# Altium footprint library Diodes.PcbLib: 28 footprints (part 2 of 2)
Each footprint in its own frame and in the unit in brackets; x right, y up, seen from the top. Pads: shape width x height; smd on the part's side, far side on the other; paste and mask are expansions set on the pad; w line width, h text height; cw(c..) or ccw(c..) is an arc to the next point about the centre after c.
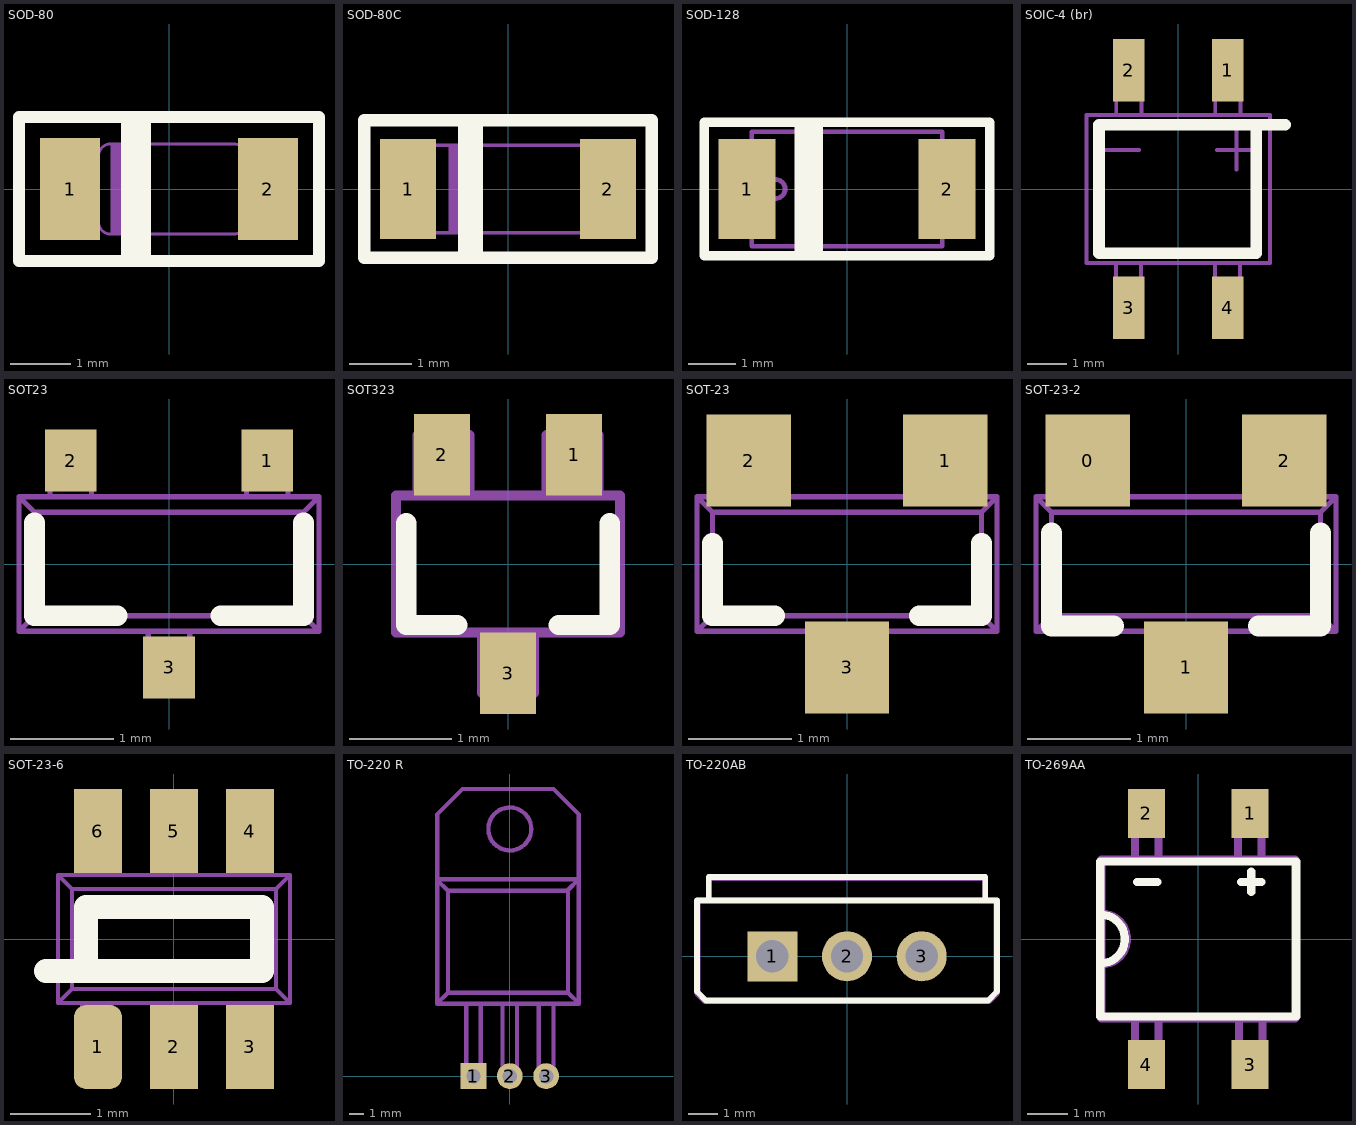
[diagram p1: the footprints below, top view; thin cyan lines are the x and y axes]

## SOD-80 [mm]
pads (2):
  rect 1x1.7 smd: 1(-1.65,0) 2(1.65,0)
Top Overlay:
  rectangle: -0.8,-1.2 -0.3,1.2
  lines w0.2: -2.5,-1.2 -2.5,1.2 2.5,1.2 2.5,-1.2 -2.5,-1.2
Mechanical 1:
  rectangle: -0.975,-0.75 -0.6,0.75
  lines w0.05: -1.275,-0.25 -1.175,-0.25 ; -1.275,0.25 -1.175,0.25 ; 1.275,-0.55 cw(c1.075,-0.55) 1.075,-0.75 -0.975,-0.75 cw(c-0.975,-0.55) -1.175,-0.55 -1.175,0.55 cw(c-0.975,0.55) -0.975,0.75 1.075,0.75 cw(c1.075,0.55) 1.275,0.55 ; -1.75,-0.75 -1.75,0.75 -1.275,0.75 -1.275,-0.75 -1.75,-0.75 ; 1.275,-0.75 1.75,-0.75 1.75,0.75 1.275,0.75 1.275,-0.75
  text ".Designator" at -1.45,1.175 h0.8
  text ".Comment" at -0.325,-0.15 h0.4
3D body "SOD-80.step": height 1.6, standoff 0, extent -1.852,-0.806 1.848,0.794

## SOD-80C [mm]
pads (2):
  rect 0.9x1.6 smd mask+0.076: 1(-1.6,0) 2(1.6,0)
Top Overlay:
  rectangle: -0.8,-1.1 -0.4,1.1
  lines w0.2: -2.3,-1.1 2.3,-1.1 2.3,1.1 -2.3,1.1 -2.3,-1.1
Mechanical 1:
  rectangle: -0.95,-0.7 -0.675,0.7
  lines w0.05: -1.451,-0.762 -1.75,-0.762 -1.75,0.763 -1.45,0.763 -1.45,-0.763 ; -1.45,-0.6 ccw(c-1.35,-0.6) -1.35,-0.7 1.35,-0.7 ccw(c1.35,-0.6) 1.45,-0.6 ; -1.45,0.6 cw(c-1.35,0.6) -1.35,0.7 1.35,0.7 cw(c1.35,0.6) 1.45,0.6 ; 1.75,-0.761 1.451,-0.761 1.451,0.764 1.751,0.764 1.751,-0.762
  text ".Comment" at -0.4,-0.2 h0.6
  text ".Designator" at -1,1 h0.8
3D body "SOD-80C.step": height 1.6, standoff 0, extent -1.85,-0.8 1.85,0.8

## SOD-128 [mm]
pads (2):
  rect 1.2x2.1 smd: 1(-2.1,0) 2(2.1,0)
Top Overlay:
  rectangle: -1.1,-1.4 -0.5,1.4
  lines w0.2: -3,-1.4 -3,1.4 3,1.4 3,-1.4 -3,-1.4
Mechanical 1:
  circle w0.1: c-1.5,0 r0.2
  lines w0.1: -2,-0.8 -2.4,-0.8 -2.4,0.8 -2,0.8 ; 2,-0.8 2.4,-0.8 2.4,0.8 2,0.8 ; -2,-1.2 2,-1.2 2,1.2 -2,1.2 -2,-1.2
  text "'.Designator'" at -1.8,1.4 h1
  text "'.Comment'" at -1.8,-1 h1
3D body "TMiniP2-F2-B-M.step": height 0.89, standoff 0, extent -2.4,-1.245 2.4,1.245

## SOIC-4 (br) [mm]
pads (4):
  rect 0.8x1.6 smd: 1(1.27,3.048) 2(-1.27,3.048) 3(-1.27,-3.048) 4(1.27,-3.048)
Top Overlay:
  lines w0.3: 2.35,1.651 -2.032,1.651 -2.032,-1.651 2,-1.651 2,1.651 2.75,1.651
Mechanical 1:
  lines w0.1: -2,1 -1,1 ; -1.595,-1.9 -1.595,-3.302 -0.95,-3.302 -0.95,-1.9 ; -1.59,1.9 -1.59,3.302 -0.945,3.302 -0.945,1.9 ; -1.5,-2.625 -1.05,-2.625 ; -1.49,2.625 -1.04,2.625 ; 0.945,-1.9 0.945,-3.302 1.59,-3.302 1.59,-1.9 ; 0.95,1.9 0.95,3.302 1.595,3.302 1.595,1.9 ; 1,1 2,1 ; 1.04,-2.625 1.49,-2.625 ; 1.05,2.625 1.5,2.625 ; 1.5,0.5 1.5,1.5 ; -2.35,-1.9 2.35,-1.9 2.35,1.9 -2.35,1.9 -2.35,-1.9
  text ".Designator" at 1.95,2.1 h1
  text ".Comment" at -2.075,-1.4 h1
3D body "SOP-4 (bridge).STEP": height 2.9, standoff 0, extent -2.475,-3.339 2.475,3.341

## SOT23 [mm]
pads (3):
  rect 0.5x0.6 smd: 1(0.95,1) 2(-0.95,1) 3(0,-1)
Top Overlay:
  lines w0.2: -1.3,0.4 -1.3,-0.5 -0.5,-0.5 ; 0.5,-0.5 1.3,-0.5 1.3,0.4
Mechanical 1:
  lines w0.05: -1.15,0.65 -1.15,1.2 -0.75,1.2 -0.75,0.65 ; -0.2,-0.65 -0.2,-1.2 0.2,-1.2 0.2,-0.65 ; 0.75,0.65 0.75,1.2 1.15,1.2 1.15,0.65 ; -1.45,-0.65 -1.3,-0.5 ; -1.45,-0.65 1.45,-0.65 ; -1.45,-0.65 -1.45,0.65 ; -1.45,0.65 -1.3,0.5 ; -1.45,0.65 1.45,0.65 ; -1.3,-0.5 -1.3,0.5 ; -1.3,-0.5 1.3,-0.5 ; -1.3,0.5 1.3,0.5 ; 1.3,-0.5 1.3,0.5 ; 1.3,-0.5 1.45,-0.65 ; 1.3,0.5 1.45,0.65 ; 1.45,-0.65 1.45,0.65
  text ".Designator" at -0.5,0.8 h0.51
  text ".Comment" at -1.2,-0.1 h0.51
3D body "SOT-23.step": height 1.06, standoff -0.04, extent -1.5,-1.25 1.5,1.25

## SOT323 [mm]
height 0.95
pads (3):
  rect 0.55x0.8 smd: 1(0.65,1.075) 2(-0.65,1.075) 3(0,-1.075)
Top Overlay:
  lines w0.2: -1,0.4 -1,-0.6 -0.5,-0.6 ; 0.5,-0.6 1,-0.6 1,0.4
Mechanical 1:
  lines w0.1: -0.889,0.675 -0.889,1.27 -0.381,1.27 -0.381,0.675 ; -0.254,-0.675 -0.254,-1.27 0.254,-1.27 0.254,-0.675 ; 0.381,0.675 0.381,1.27 0.889,1.27 0.889,0.675 ; -1.1,-0.675 1.1,-0.675 1.1,0.675 -1.1,0.675 -1.1,-0.675
  text "'.Comment'" at -1,-0.2 h0.5
  text "'.Designator'" at 1.2,0.9 h0.5
3D body "User Library-SOT323 (SC70-3)-1.STEP": height 1.1, standoff 0, extent -1.1,-1.123 1.1,1.122

## SOT-23 [mil]
pads (3):
  rect 32x35 smd: 1(37.4,39.37) 2(-37.4,39.37) 3(0,-39.37)
Top Overlay:
  lines w7.87: -51.18,7.87 -51.18,-19.68 -27.56,-19.68 ; 27.56,-19.68 51.18,-19.68 51.18,7.87
Mechanical 1:
  lines w1.97: -45.28,25.59 -45.28,47.24 -29.53,47.24 -29.53,25.59 ; -7.87,-25.59 -7.87,-47.24 7.87,-47.24 7.87,-25.59 ; 29.53,25.59 29.53,47.24 45.28,47.24 45.28,25.59 ; -57.09,-25.59 -57.09,25.59 ; -57.09,-25.59 57.09,-25.59 ; -57.09,-25.59 -51.18,-19.68 ; -57.09,25.59 57.09,25.59 ; -57.09,25.59 -51.18,19.68 ; -51.18,-19.68 51.18,-19.68 ; -51.18,-19.68 -51.18,19.68 ; -51.18,19.68 51.18,19.68 ; 51.18,-19.68 57.09,-25.59 ; 51.18,-19.68 51.18,19.68 ; 51.18,19.68 57.09,25.59 ; 57.09,-25.59 57.09,25.59
  text ".Designator" at -15.75,29.53 h19.68
  text ".Comment" at -46.26,-16.73 h19.68
3D body "SOT-23.step": height 41.34, standoff -1.97, extent -59.05,-49.21 59.06,49.22

## SOT-23-2 [mil]
pads (3):
  rect 32x35 smd: 0(-37.4,39.37) 1(0,-39.37) 2(37.4,39.37)
Top Overlay:
  lines w7.87: -51.18,11.81 -51.18,-23.62 -27.56,-23.62 ; 27.56,-23.62 51.18,-23.62 51.18,11.81
Mechanical 1:
  lines w1.97: -45.28,25.59 -45.28,47.24 -29.53,47.24 -29.53,25.59 ; -7.87,-25.59 -7.87,-47.24 7.87,-47.24 7.87,-25.59 ; 29.53,25.59 29.53,47.24 45.28,47.24 45.28,25.59 ; -57.09,-25.59 -51.18,-19.68 ; -57.09,-25.59 57.09,-25.59 ; -57.09,-25.59 -57.09,25.59 ; -57.09,25.59 -51.18,19.68 ; -57.09,25.59 57.09,25.59 ; -51.18,-19.68 -51.18,19.68 ; -51.18,-19.68 51.18,-19.68 ; -51.18,19.68 51.18,19.68 ; 51.18,-19.68 51.18,19.68 ; 51.18,-19.68 57.09,-25.59 ; 51.18,19.68 57.09,25.59 ; 57.09,-25.59 57.09,25.59
  text ".Comment" at -46.26,-16.73 h19.68
  text ".Designator" at -15.75,29.53 h19.68
3D body "SOT-23.step": height 41.34, standoff -1.97, extent -59.05,-49.21 59.06,49.22

## SOT-23-6 [mm]
pads (6):
  rrect50% 0.6x1.05 smd mask+0.076: 1(-0.95,-1.35)
  rect 0.6x1.05 smd mask+0.076: 2(0,-1.35) 3(0.95,-1.35) 4(0.95,1.35) 5(0,1.35) 6(-0.95,1.35)
Top Overlay:
  lines w0.3: -1.6,-0.4 1.1,-0.4 1.1,0.4 -1.1,0.4 -1.1,-0.4
Mechanical 1:
  lines w0.05: -1.15,-0.8 -1.15,-1.4 -0.775,-1.4 -0.775,-0.8 ; -1.125,0.8 -1.125,1.4 -0.75,1.4 -0.75,0.8 ; -1.1,-1.175 -0.825,-1.175 ; -1.075,1.175 -0.8,1.175 ; -0.175,-0.8 -0.175,-1.4 0.2,-1.4 0.2,-0.8 ; -0.175,0.8 -0.175,1.4 0.2,1.4 0.2,0.8 ; -0.125,-1.175 0.15,-1.175 ; -0.125,1.175 0.15,1.175 ; 0.775,-0.8 0.775,-1.4 1.15,-1.4 1.15,-0.8 ; 0.775,0.8 0.775,1.4 1.15,1.4 1.15,0.8 ; 0.825,-1.175 1.1,-1.175 ; 0.825,1.175 1.1,1.175 ; -1.45,-0.8 1.45,-0.8 ; -1.45,-0.8 -1.45,0.8 ; -1.45,-0.8 -1.275,-0.625 ; -1.45,0.8 1.45,0.8 ; -1.45,0.8 -1.275,0.625 ; -1.275,-0.625 1.275,-0.625 ; -1.275,-0.625 -1.275,0.625 ; -1.275,0.625 -1.275,0.625 ; -1.275,0.625 1.275,0.625 ; 1.275,-0.625 1.45,-0.8 ; 1.275,-0.625 1.275,0.625 ; 1.275,0.625 1.45,0.8 ; 1.45,-0.8 1.45,0.8
  text ".Comment" at -1.1,-0.5 h0.6
  text ".Designator" at 1.6,0.6 h0.8
3D body "SOT-23-6.step": height 0.86, standoff 0, extent -1.5,-1.405 1.5,1.405

## TO-220 R [mm]
pads (3):
  rect 1.8x1.8 hole 1: 1(-2.54,0)
  round 1.8 hole 1: 2(0,0) 3(2.54,0)
Mechanical 3:
  circle w0.3: c0,17.272 r1.5
  lines w0.3: -5.08,13.716 -4.318,12.954 ; -3.048,5.066 -3.048,0.254 -2.794,0 -2.286,0 -2.032,0.254 -2.032,5.066 ; -0.508,5.066 -0.508,0.254 -0.254,0 0.254,0 0.508,0.254 0.508,5.066 ; 2.032,5.066 2.032,0.254 2.286,0 2.794,0 3.048,0.254 3.048,5.066 ; 4.064,13.004 4.064,5.828 ; -5.08,5.066 -5.08,13.766 ; -5.08,5.066 4.826,5.066 ; -5.08,5.066 -4.318,5.828 ; -5.08,13.766 4.826,13.766 ; -5.08,13.766 -5.08,18.288 -3.302,20.066 3.048,20.066 4.826,18.288 4.826,13.766 ; -4.318,5.828 -4.318,12.954 ; -4.318,5.828 4.064,5.828 ; -4.318,12.954 4.014,12.954 4.826,13.766 ; 4.064,5.828 4.826,5.066 ; 4.826,5.066 4.826,13.766
  text ".Comment" at -3.81,6.35 h1.52
  text ".Designator" at -3.81,14.478 h1.52
3D body "User Library-TO220-AB-H PCB.step": height 5.55, standoff -2.58, extent -4.95,-0.247 4.95,19.966

## TO-220AB [mm]
pads (3):
  rect 1.7x1.7 hole 1.1: 1(-2.54,0)
  round 1.7 hole 1.1: 2(0,0) 3(2.54,0)
Top Overlay:
  lines w0.2: -4.7,1.9 -4.7,2.7 4.7,2.7 4.7,1.9 ; -5.1,-1.2 -4.8,-1.5 4.8,-1.5 5.1,-1.2 5.1,1.9 -5.1,1.9 -5.1,-1.2
Mechanical 3:
  lines w0.2: 4.699,1.905 4.699,2.667 -4.699,2.667 -4.699,1.905 -5.08,1.905 ; -5.08,1.905 -5.08,-1.27 -4.826,-1.524 4.826,-1.524 5.08,-1.27 5.08,1.905 -5.08,1.905
  text ".Designator" at -4.445,2.921 h1
  text ".Comment" at -4.445,1.143 h1
3D body "User Library-Transistors TO-220AB.step": height 19.37, standoff -13.52, extent -5.08,-1.524 5.08,2.671

## TO-269AA [mm]
pads (4):
  rect 0.9x1.2 smd: 1(1.27,3.075) 2(-1.27,3.075) 3(1.27,-3.075) 4(-1.27,-3.075)
Top Overlay:
  lines w0.2: -2.4,-0.6 ccw(c-2.4,0) -2.4,0.6 ; -1.5,1.4 -1,1.4 ; 1.05,1.4 1.55,1.4 ; 1.3,1.15 1.3,1.65 ; -2.4,-1.9 2.4,-1.9 2.4,1.9 -2.4,1.9 -2.4,-1.9
Mechanical 1:
  lines w0.2: -2.375,-0.625 ccw(c-2.375,0) -2.375,0.625 ; -1.55,-1.95 -1.55,-3.325 -0.975,-3.325 -0.975,-1.95 ; -1.55,1.95 -1.55,3.325 -0.975,3.325 -0.975,1.95 ; 0.975,1.95 0.975,3.325 1.55,3.325 1.55,1.95 ; 1,-1.95 1,-3.325 1.575,-3.325 1.575,-1.95 ; -2.375,-1.95 -2.375,1.95 2.375,1.95 2.375,-1.95 -2.375,-1.95
  text ".Comment" at -2.175,-1.675 h1
  text ".Designator" at -2.15,1.175 h1
3D body "User Library-TO-269AA_jam.step": height 2.7, standoff 0, extent -2.475,-3.545 2.475,3.495